# Altium schematic symbol library SMD Opto Components.SchLib: 8 symbols
Pins are listed as number, name and electrical type; pins without a type are passive.

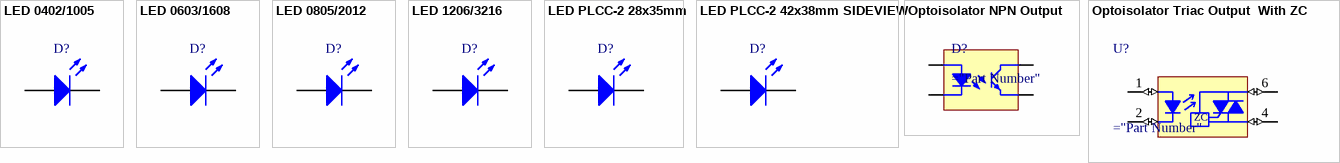
[diagram p0: symbols LED 0402/1005 to Optoisolator Triac Output  With ZC]

## LED 0402/1005
designator D?
Typical SMD LED; Published: 8-Jun-2000; LatestRevisionDate: 08-Jul-2005; LatestRevisionNote: Mech Layer 1 removed.; PackageReference: LED-0; Publisher: Altium Limited
footprint LED 0402/1005 BLUE (Chip LED, IPC Medium Density)
footprint LED 0402/1005 GREEN (Chip LED, IPC Medium Density)
footprint LED 0402/1005 RED (Chip LED, IPC Medium Density)
footprint LED 0402/1005 WHITE (Chip LED, IPC Medium Density)
footprint LED 0402/1005 YELLOW (Chip LED, IPC Medium Density)
pins: 1 A, 2 K

## LED 0603/1608
designator D?
Typical SMD LED; Published: 8-Jun-2000; LatestRevisionDate: 08-Jul-2005; LatestRevisionNote: Mech Layer 1 removed.; PackageReference: LED-0; Publisher: Altium Limited
footprint LED 0603/1608 BLUE (Chip LED, IPC Medium Density)
footprint LED 0603/1608 GREEN (Chip LED, IPC Medium Density)
footprint LED 0603/1608 RED (Chip LED, IPC Medium Density)
footprint LED 0603/1608 WHITE (Chip LED, IPC Medium Density)
footprint LED 0603/1608 YELLOW (Chip LED, IPC Medium Density)
pins: 1 A, 2 K

## LED 0805/2012
designator D?
Typical SMD LED; Published: 8-Jun-2000; LatestRevisionDate: 08-Jul-2005; LatestRevisionNote: Mech Layer 1 removed.; PackageReference: LED-0; Publisher: Altium Limited
footprint LED 0805/2012 BLUE (Chip LED, IPC Medium Density)
footprint LED 0805/2012 GREEN (Chip LED, IPC Medium Density)
footprint LED 0805/2012 RED (Chip LED, IPC Medium Density)
footprint LED 0805/2012 WHITE (Chip LED, IPC Medium Density)
footprint LED 0805/2012 YELLOW (Chip LED, IPC Medium Density)
pins: 1 A, 2 K

## LED 1206/3216
designator D?
Typical SMD LED; Published: 8-Jun-2000; LatestRevisionDate: 08-Jul-2005; LatestRevisionNote: Mech Layer 1 removed.; PackageReference: LED-0; Publisher: Altium Limited
footprint LED 1206/3216 BLUE (Chip LED, IPC Medium Density)
footprint LED 1206/3216 GREEN (Chip LED, IPC Medium Density)
footprint LED 1206/3216 RED (Chip LED, IPC Medium Density)
footprint LED 1206/3216 WHITE (Chip LED, IPC Medium Density)
footprint LED 1206/3216 YELLOW (Chip LED, IPC Medium Density)
pins: 1 A, 2 K

## LED PLCC-2 28x35mm
designator D?
SMD Top View LED; Published: 8-Jun-2000; LatestRevisionDate: 08-Jul-2005; LatestRevisionNote: Mech Layer 1 removed.; PackageReference: LED-0; Publisher: Altium Limited
footprint EVERLIGHT 67-21-R6C-AP2R1B-2T (PLCC-2, Light Emmiting Diode, 2-Leads, Body 2.8x3.5mm, IPC Low Density)
footprint EVERLIGHT 67-21-SUBC-S400-XX-TR8 (PLCC-2, Light Emmiting Diode, 2-Leads, Body 2.8x3.5mm, IPC Low Density)
footprint EVERLIGHT 67-21-SUGC-C525-TR8 (PLCC-2, Light Emmiting Diode, 2-Leads, Body 2.8x3.5mm, IPC Low Density)
footprint EVERLIGHT 67-21-Y2SC-B101-TR8-AM (PLCC-2, Light Emmiting Diode, 2-Leads, Body 2.8x3.5mm, IPC Low Density)
footprint HARVATEK HT-T169NG (PLCC-2, Light Emmiting Diode, 2-Leads, Body 2.8x3.5mm, IPC Low Density)
pins: 1 A, 2 K

## LED PLCC-2 42x38mm SIDEVIEW
designator D?
SMD Top View LED; Published: 8-Jun-2000; LatestRevisionDate: 08-Jul-2005; LatestRevisionNote: Mech Layer 1 removed.; PackageReference: LED-0; Publisher: Altium Limited
footprint OSRAM LW-A6SG-V1AA-5K8L REFLOW (PLCC-2, Right Angle Light Emmiting Diode, 2-Leads, Body 4.2x3.8mm, IPC Low Density)
pins: 1 A, 2 K

## Optoisolator NPN Output
designator D?
NPN Transistor Output
footprint LITEON LTV-357T (SOP, 4-Leads, Body 3.85x4.4mm, Pitch 2.54mm, IPC Medium Density)
footprint LITEON LTV-817 (SOP, 4-Leads, Body 4.60x6.50mm, Pitch 2.54mm, IPC Medium Density)
pins: 1, 2, 3, 4

## Optoisolator Triac Output  With ZC
designator U?
Triac Output With ZC; MP: MOC3063; MF: Isocom; Price: 0.28 USD; Package: DIP-6 Isocom; Availability: Good; Value: *
footprint LITEON MOC3063 6-SMD
pins: 1 A (io), 2 K (io), 4 T2 (io), 6 T1 (io)
text: ZC